# Altium schematic symbol library Ultrascale.SCHLIB: 117 symbols (part 2 of 3)
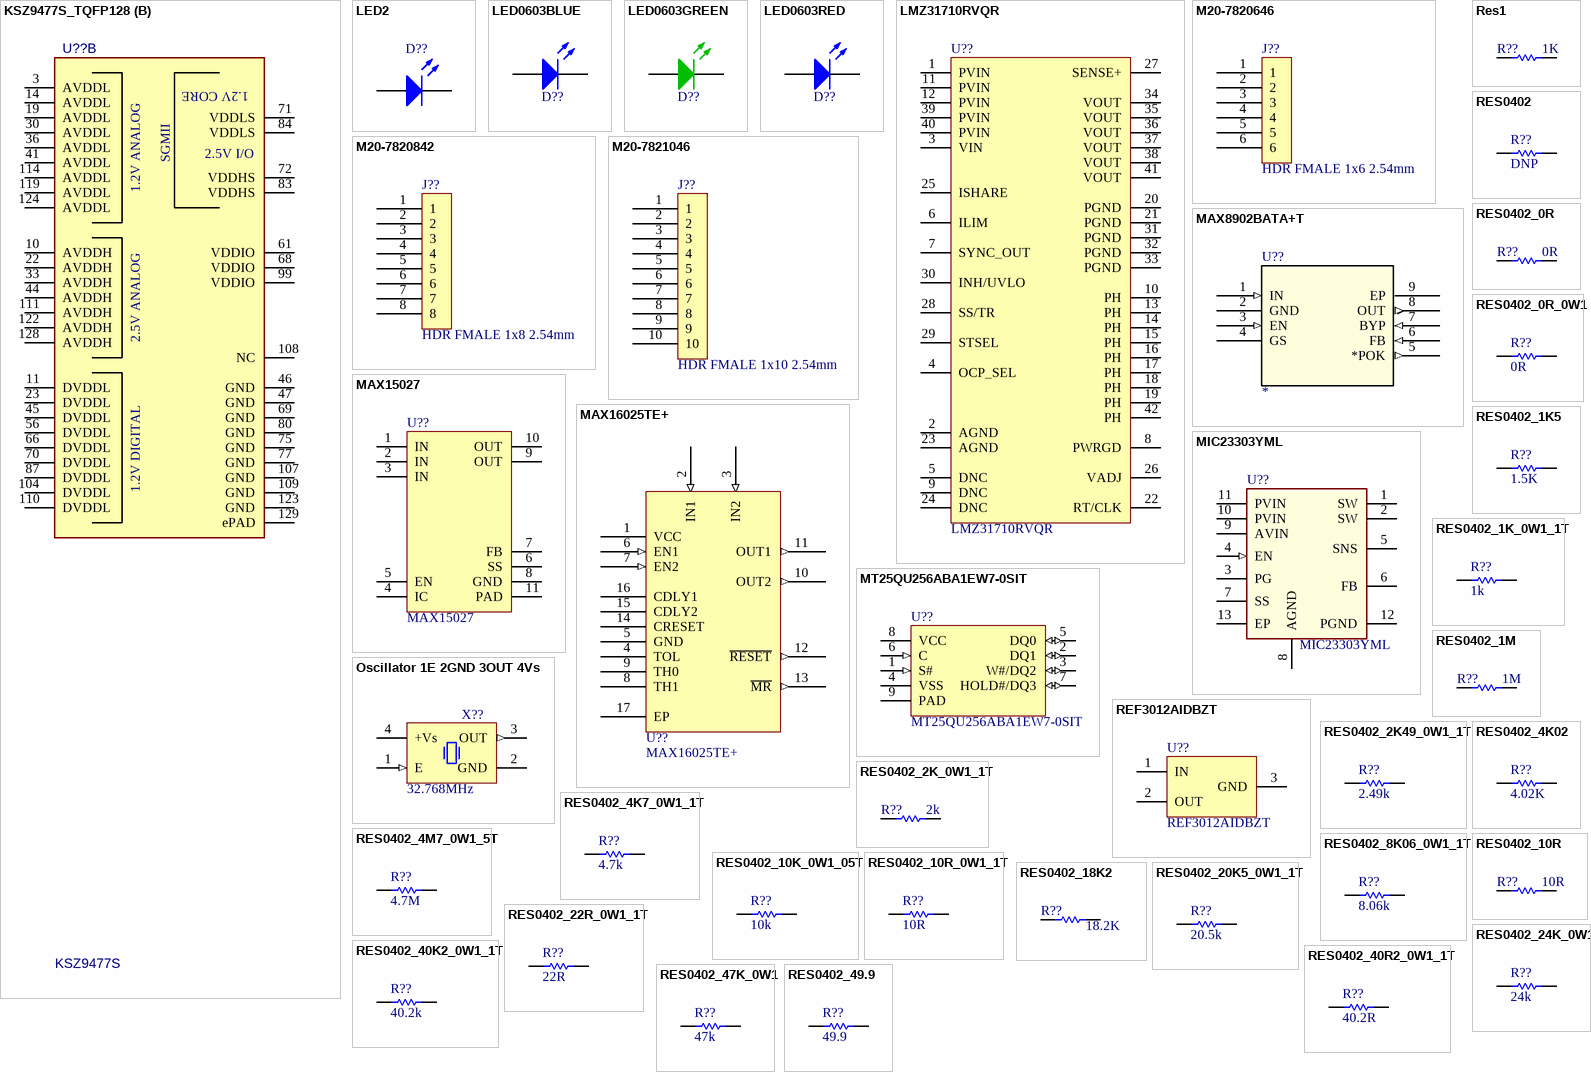
[diagram p7: symbols KSZ9477S_TQFP128 to RES0402_49.9]

## MAX16025TE+
designator U??
IC SUPERVISORY CIRC DL 16TQFN; Manufacturer: Maxim Integrated; ComponentLink1Description: Datasheet; ComponentLink1URL: C:\Users\Public\Documents\Altium\AD16\Library\PDF\MAX16025-MAX16030.pdf; Supplier 1: Digi-Key; Supplier Part Number 1: MAX16025TE+-ND; Operating Temperature: -40°C ~ 125°C (TA); Manufacturer Part Number: MAX16025TE+
footprint T1644+4_L (QFN, 16-Leads, Body 4x4mm, Pitch 0.65mm, Thermal Pad 2.3x2.3mm, IPC High Density)
pins: 1 VCC, 2 IN1 (in), 3 IN2 (in), 4 TOL, 5 GND, 6 EN1 (in), 7 EN2 (in), 8 TH1, 9 TH0, 10 OUT2 (out), 11 OUT1 (out), 12 ~{RESET} (out), 13 ~{MR} (out), 14 CRESET, 15 CDLY2, 16 CDLY1, 17 EP

## MIC23303YML
designator U??
4MHz PWM 3A Buck Regulator with HyperLight Load and Power Good; Part Checked: Carl Johnson; Manufacturer: Microchip Technology; Populated: Yes; Temperature Rating: -40 to +125 C; Description_: 4MHz PWM 3A Buck Regulator with HyperLight Load and Power Good; Document Link: http://nyusperforce.smsc.com//depot_np_hweng_boards/altium_libraries/datasheets/_Microchip/_Micrel/MIC23303.pdf; Owner: *; Part 3D Model Checked: *; Part Footprint Checked: *; Part Golden: *; Revision Date: 06/20/16; Package: DFN12-3x3; Supplier 1: DigiKey; Supplier 2: Mouser; Supplier Part Number 1: 1611-MIC23303YML-T5CT-ND; Supplier Part Number 2: 998-MIC23303YMLT5; Value: MIC23303YML; Manufacturer Part Number: MIC23303YML
footprint DFN-12_3x3 (Footprint not found)
pins: 1 SW, 2 SW, 3 PG (power), 4 EN (in), 5 SNS, 6 FB (hiz), 7 SS, 8 AGND (power), 9 AVIN (power), 10 PVIN (power), 11 PVIN (power), 12 PGND (power), 13 EP

## MT25QU256ABA1EW7-0SIT
designator U??
IC FLASH 256MBIT 108MHZ 8VPDFN; Manufacturer: Micron Technology Inc.; ComponentLink1Description: Datasheet; ComponentLink1URL: C:\Users\Public\Documents\Altium\AD16\Library\PDF\MT25Q_QLJS_U_256_ABA_0.pdf; Supplier 1: Digi-Key; Manufacturer Part Number: MT25QU256ABA1EW7-0SIT
footprint W-PDFN-8_6x5mm (SON, 8-Leads, Body 5.00x6.00mm, Pitch 1.27mm, Thermal Pad 3.00x3.00mm, IPC Medium Density)
pins: 1 S# (in), 2 DQ1 (io), 3 W#/DQ2 (io), 4 VSS, 5 DQ0 (io), 6 C (in), 7 HOLD#/DQ3 (io), 8 VCC, 9 PAD

## Oscillator 1E 2GND 3OUT 4Vs
designator X??, comment 32.768MHz
Oscillator 4 pins 1=E 2=GND 3=OUT 4=+Vs; Part Number: OSC_32.7688MHZ_RAKON_LF SPXO019203; Part Description: 3.3V ±50ppm Tri-State Surface Mount HCCMOS Clock Oscillator (CFPS-73 Serie); Manufacturer: EPSON; Manufacturer Part Number: SG-3030JF 32.7680KB0: ROHS; Table: Crystals & Oscillators; Frequency: 32.768kHz; Output: CMOS; Voltage - Supply: 1.5 V ~ 5.5 V; Current - Supply (Max): 2µA; Component Kind: Standard; Component Type: Standard; Footprint: OSCSC508P500X700X180-4N; PackageDescription: SMD Oscillator, side convave, 4 pins, 5.00x7.00mm; Value: 32.768MHz; Pin Count: 4; Mounted: Yes; Socket: No; SMD: Yes; ComponentHeight: 2mm; HelpURL: \\cern.ch\dfs\Applications\Altium\Datasheets\OSC_RAKON_CFPS.pdf; Author: CERN DEM JLC; CreateDate: 5.10.2009; LatestRevisionDate: 5.10.2009; Category: Crystals and Oscillators; Supplier Part Number: SG-3030JF 32.7680KB0: ROHS-ND; Supplier: Digi-Key; RoHS: RoHS Compliant; Packaging: Tape & Reel (TR); Type: XO (Standard); Function: -; Frequency Stability: -; Operating Temperature: -20°C ~ 70°C; Ratings: -; Mounting Type: Surface Mount; Size / Dimension: 0.280" L x 0.181" W (7.10mm x 4.60mm); Height: 0.059" (1.50mm); Package / Case: 4-SOJ; Current - Supply (Disable) (Max): -
footprint OSCSC508P500X700X180-4N
pins: 1 E (in), 2 GND (power), 3 OUT (out), 4 +Vs (power)

## REF3012AIDBZT
designator U??
IC VREF SERIES 1.25V SOT23-3; Manufacturer: Texas Instruments; Voltage - Input: 1.8 V ~ 5.5 V; ComponentLink1Description: Datasheet; ComponentLink1URL: C:\Users\Public\Documents\Altium\AD16\Library\PDF\ref3012.pdf; Supplier 1: Digi-Key; Supplier Part Number 1: REF3012AIDBZTCT-ND; Operating Temperature: -40°C ~ 125°C (TA); Voltage - Output (Min/Fixed): 1.25V; Manufacturer Part Number: REF3012AIDBZT
footprint TI-DBZ3_N (SOT23, 3-Leads, Body 2.92x1.3 mm, Pitch 0.95 mm, IPC Medium Density)
pins: 1 IN, 2 OUT, 3 GND

## Res1
designator R??  value 1K
Resistor; Published: 8-Jun-2000; LatestRevisionDate: 17-Jul-2002; LatestRevisionNote: Re-released for DXP Platform.; PackageReference: AXIAL-0.3; Publisher: Altium Limited; PackageDescription: Axial Device, Thru-Hole; 2 Leads; 0.3 in Pin Spacing
footprint AXIAL-0.3 (Axial Device, Thru-Hole; 2 Leads; 0.3 in Pin Spacing)
simulation model RESISTOR (Resistor)
signal-integrity model Res
pins: 1, 2

## RES0402
designator R??  value DNP  (hidden comment: RES0402)
RES SMD 0402 Footprint; Package: 0402; ComponentLink1Description: Datasheet; Tolerance: -
footprint RESC1005L_0402 (Chip Resistor, Body 1.1x0.5mm, IPC High Density)
pins: 1, 2

## RES0402_0R
designator R??  value 0R  (hidden comment: RES0402_0R)
RES SMD 0 OHM JUMPER 1/16W 0402; Manufacturer: Vishay Dale; Manufacturer Part Number: CRCW04020000Z0ED; Power: 0.063W, 1/16W; Package: 0402; ComponentLink1Description: Datasheet; Tolerance: -; Supplier 1: Digi-Key; Supplier Part Number 1: 541-0.0JCT-ND
footprint RESC1005L_0402 (Chip Resistor, Body 1.1x0.5mm, IPC High Density)
simulation model RESISTOR (Resistor)
signal-integrity model Res
pins: 1, 2

## RES0402_0R_0W1
designator R??  value 0R  (hidden comment: RES0402_0R_0W1)
RES SMD 0 OHM JUMPER 1/10W 0402; Manufacturer: Panasonic Electronic Components; Manufacturer Part Number: ERJ-2GE0R00X; Package: 0402; ComponentLink1Description: Datasheet; Power: 1/10W; Tolerance: -; Supplier 1: Digi-Key; Supplier Part Number 1: P0.0JCT-ND
footprint RESC1005L_0402 (Chip Resistor, Body 1.1x0.5mm, IPC High Density)
simulation model RESISTOR (Resistor)
signal-integrity model Res
pins: 1, 2

## RES0402_1K5
designator R??  value 1.5K
RES SMD 1.5K OHM 1% 1/16W 0402; Manufacturer Part Number: CRCW04021K50FKED; Manufacturer: Vishay Dale; Power: 1/10W; Package: 0402; ComponentLink1Description: Datasheet; Tolerance: 1%; Supplier 1: Digi-Key; Supplier Part Number 1: 311-1.5KJRCT-ND
footprint RESC1005L_0402 (Chip Resistor, Body 1.1x0.5mm, IPC High Density)
simulation model RESISTOR (Resistor)
signal-integrity model Res
pins: 1, 2

## RES0402_1K_0W1_1T
designator R??  value 1k  (hidden comment: RES0402_1K_0W1_1T)
RES SMD 1K OHM 1% 1/10W 0402; Manufacturer: Panasonic Electronic Components; Manufacturer Part Number: ERJ-2RKF1001X; Package: 0402; ComponentLink1Description: Datasheet; Power: 1/10W; Tolerance: 1%; Supplier 1: Digi-Key; Supplier Part Number 1: P1.00KLCT-ND
footprint RESC1005L_0402 (Chip Resistor, Body 1.1x0.5mm, IPC High Density)
simulation model RESISTOR (Resistor)
signal-integrity model Res
pins: 1, 2

## RES0402_1M
designator R??  value 1M
RES SMD 1M OHM 1% 1/16W 0402; Manufacturer: Vishay Dale; Manufacturer Part Number: CRCW04021M00FKED; Power: 0.063W, 1/16W; Package: 0402; ComponentLink1Description: Datasheet; Tolerance: 1%; Supplier 1: Digi-Key; Supplier Part Number 1: 311-1.00MLRCT-ND
footprint RESC1005L_0402 (Chip Resistor, Body 1.1x0.5mm, IPC High Density)
simulation model RESISTOR (Resistor)
signal-integrity model Res
pins: 1, 2

## RES0402_2K49_0W1_1T
designator R??  value 2.49k  (hidden comment: RES0402_2K49_0W1_1T)
RES SMD 2.49K OHM 1% 1/10W 0402; Manufacturer: Panasonic Electronic Components; Manufacturer Part Number: ERJ-2RKF2491X; Package: 0402; ComponentLink1Description: Datasheet; Power: 1/10W; Tolerance: 1%; Supplier 1: Digi-Key; Supplier Part Number 1: P2.49KLCT-ND
footprint RESC1005L_0402 (Chip Resistor, Body 1.1x0.5mm, IPC High Density)
simulation model RESISTOR (Resistor)
signal-integrity model Res
pins: 1, 2

## RES0402_2K_0W1_1T
designator R??  value 2k  (hidden comment: RES0402_2K_0W1_1T)
RES SMD 2K OHM 1% 1/16W 0402; Manufacturer: Vishay Dale; Manufacturer Part Number: CRCW04022K00FKED; Power: 1/10W; Package: 0402; ComponentLink1Description: Datasheet; Tolerance: 1%; Supplier 1: Digi-Key; Supplier Part Number 1: 541-2.00KLCT-ND
footprint RESC1005L_0402 (Chip Resistor, Body 1.1x0.5mm, IPC High Density)
simulation model RESISTOR (Resistor)
signal-integrity model Res
pins: 1, 2

## RES0402_4K02
designator R??  value 4.02K  (hidden comment: *)
RES SMD 4.02K OHM 1% 1/16W 0402; Manufacturer: Vishay; Manufacturer Part Number: CRCW04024K02FKED; Resistance_In_Ohms: 0.0; Power_(Watts): 0.063W, 1/16W; Tolerance: Jumper; Lead_Style: Surface Mount (SMD - SMT); Voltage_-_Working: 50V; Number_of_Terminations: 2; C: Copyright (C) 2015 Accelerated Designs. All rights reserved; DigiKeyPartNumber: 541-0.0JTR-ND; Quantity_Available: 3480000; Copyright: Copyright (C) 2015 Accelerated Designs. All rights reserved; DataSheet: http://www.vishay.com/docs/20035/dcrcwe3.pdf; Case: 0402 (1005 metric); Packaging: Tape &amp; Reel (TR); Composition: Thick Film; Temperature_Coefficient: -; Resistance_(Ohms): 0.0; Features: -; Package_/_Case: 0402 (1005 Metric); Size_/_Dimension: 0.039" L x 0.020" W (1.00mm x 0.50mm); Height: 0.016" (0.40mm); Supplier 1: Digi-Key; Supplier Part Number 1: 541-4.02KYCT-ND
footprint RC0402N
pins: 1, 2

## RES0402_4K7_0W1_1T
designator R??  value 4.7k  (hidden comment: RES0402_4K7_0W1_1T)
RES SMD 4.7K OHM 1% 1/10W 0402; Manufacturer: Panasonic Electronic Components; Manufacturer Part Number: ERJ-2RKF4701X; Package: 0402; ComponentLink1Description: Datasheet; Power: 1/10W; Tolerance: 1%; Supplier 1: Digi-Key; Supplier Part Number 1: P4.70KLCT-ND
footprint RESC1005L_0402 (Chip Resistor, Body 1.1x0.5mm, IPC High Density)
simulation model RESISTOR (Resistor)
signal-integrity model Res
pins: 1, 2

## RES0402_4M7_0W1_5T
designator R??  value 4.7M  (hidden comment: RES0402_4M7_0W1_5T)
RES SMD 4.7M OHM 5% 1/16W 0402; Manufacturer: Vishay Dale; Manufacturer Part Number: CRCW04024M70JNED; Power: 1/10W; Package: 0402; ComponentLink1Description: Datasheet; Tolerance: 5%; Supplier 1: Digi-Key; Supplier Part Number 1: 541-4.7MJCT-ND
footprint RESC1005L_0402 (Chip Resistor, Body 1.1x0.5mm, IPC High Density)
simulation model RESISTOR (Resistor)
signal-integrity model Res
pins: 1, 2

## RES0402_8K06_0W1_1T
designator R??  value 8.06k  (hidden comment: RES0402_8K06_0W1_1T)
RES SMD 8.06K OHM 1% 1/10W 0402; Manufacturer: Panasonic Electronic Components; Manufacturer Part Number: ERJ-2RKF8061X; Package: 0402; ComponentLink1Description: Datasheet; Power: 1/10W; Tolerance: 1%; Supplier 1: Digi-Key; Supplier Part Number 1: P8.06KLCT-ND
footprint RESC1005L_0402 (Chip Resistor, Body 1.1x0.5mm, IPC High Density)
simulation model RESISTOR (Resistor)
signal-integrity model Res
pins: 1, 2

## RES0402_10K_0W1_05T
designator R??  value 10k  (hidden comment: RES0402_10K_0W1_05T)
RES SMD 10K OHM 0.5% 1/16W 0402; Manufacturer: Panasonic Electronic Components; Manufacturer Part Number: ERJ-2RHD1002X; Package: 0402; ComponentLink1Description: Datasheet; Power: 1/16W; Tolerance: 0.5%; Supplier 1: Digi-Key; Supplier Part Number 1: P15984CT-ND
footprint RESC1005L_0402 (Chip Resistor, Body 1.1x0.5mm, IPC High Density)
simulation model RESISTOR (Resistor)
signal-integrity model Res
pins: 1, 2

## RES0402_10R
designator R??  value 10R  (hidden comment: RES0402_10R)
RES SMD 10 OHM 1% 1/16W 0402; Manufacturer: Vishay Dale; Manufacturer Part Number: CRCW040210R0FKED; Power: 0.063W, 1/16W; Package: 0402; ComponentLink1Description: Datasheet; Tolerance: -; Supplier 1: Digi-Key; Supplier Part Number 1: 541-10.0YCT-ND
footprint RESC1005L_0402 (Chip Resistor, Body 1.1x0.5mm, IPC High Density)
simulation model RESISTOR (Resistor)
signal-integrity model Res
pins: 1, 2

## RES0402_10R_0W1_1T
designator R??  value 10R  (hidden comment: RES0402_10R_0W1_1T)
RES SMD 10 OHM 1% 1/10W 0402; Manufacturer: Panasonic Electronic Components; Manufacturer Part Number: ERJ-2RKF10R0X; Package: 0402; ComponentLink1Description: Datasheet; Power: 1/10W; Tolerance: 1%; Supplier 1: Digi-Key; Supplier Part Number 1: P10.0LCT-ND
footprint RESC1005L_0402 (Chip Resistor, Body 1.1x0.5mm, IPC High Density)
simulation model RESISTOR (Resistor)
signal-integrity model Res
pins: 1, 2

## RES0402_18K2
designator R??  value 18.2K  (hidden comment: *)
RES SMD 18.2K OHM 1% 1/16W 0402; Manufacturer Part Number: CRCW040218K2FKED; Vendor: Vishay; Supersection: Passives; Section: Resistors; C: Copyright (C) 2015 Accelerated Designs. All rights reserved; Family: Surface Mount, Fixed; Copyright: Copyright (C) 2015 Accelerated Designs. All rights reserved; RS_Part_Number: 6784684; Supplier 1: Digi-Key; Manufacturer: Vishay
footprint RES_CRCW_0402
pins: 1, 2

## RES0402_20K5_0W1_1T
designator R??  value 20.5k  (hidden comment: RES0402_20K5_0W1_1T)
RES SMD 20.5K OHM 1% 1/10W 0402; Manufacturer: Panasonic Electronic Components; Manufacturer Part Number: ERJ-2RKF2052X; Package: 0402; ComponentLink1Description: Datasheet; Power: 1/10W; Tolerance: 1%; Supplier 1: Digi-Key; Supplier Part Number 1: P20.5KLCT-ND
footprint RESC1005L_0402 (Chip Resistor, Body 1.1x0.5mm, IPC High Density)
simulation model RESISTOR (Resistor)
signal-integrity model Res
pins: 1, 2

## RES0402_22R_0W1_1T
designator R??  value 22R  (hidden comment: RES0402_22R_0W1_1T)
RES SMD 22 OHM 1% 1/10W 0402; Manufacturer: Panasonic Electronic Components; Manufacturer Part Number: ERJ-2RKF22R0X; Package: 0402; ComponentLink1Description: Datasheet; Power: 1/10W; Tolerance: 1%; Supplier 1: Digi-Key; Supplier Part Number 1: P22.0LCT-ND
footprint RESC1005L_0402 (Chip Resistor, Body 1.1x0.5mm, IPC High Density)
simulation model RESISTOR (Resistor)
signal-integrity model Res
pins: 1, 2

## RES0402_24K_0W1
designator R??  value 24k  (hidden comment: RES0402_24K_0W1)
RES SMD 24K OHM 1% 1/10W 0402; Manufacturer: Panasonic Electronic Components; Manufacturer Part Number: ERJ-2RKF2402X; Package: 0402; ComponentLink1Description: Datasheet; Power: 1/10W; Tolerance: 1%; Supplier 1: Digi-Key; Supplier Part Number 1: P24.0KLCT-ND
footprint RESC1005L_0402 (Chip Resistor, Body 1.1x0.5mm, IPC High Density)
simulation model RESISTOR (Resistor)
signal-integrity model Res
pins: 1, 2

## RES0402_40K2_0W1_1T
designator R??  value 40.2k  (hidden comment: RES0402_40K2_0W1_1T)
RES SMD 40.2K OHM 1% 1/10W 0402; Manufacturer: Panasonic Electronic Components; Manufacturer Part Number: ERJ-2RKF4022X; Package: 0402; ComponentLink1Description: Datasheet; Power: 1/10W; Tolerance: 1%; Supplier 1: Digi-Key; Supplier Part Number 1: P40.2KLCT-ND
footprint RESC1005L_0402 (Chip Resistor, Body 1.1x0.5mm, IPC High Density)
simulation model RESISTOR (Resistor)
signal-integrity model Res
pins: 1, 2

## RES0402_40R2_0W1_1T
designator R??  value 40.2R  (hidden comment: RES0402_40R2_0W1_1T)
RES SMD 40.2 OHM 1% 1/10W 0402; Manufacturer: Panasonic Electronic Components; Manufacturer Part Number: ERJ-2RKF40R2X; Package: 0402; ComponentLink1Description: Datasheet; Power: 1/10W; Tolerance: 1%; Supplier 1: Digi-Key; Supplier Part Number 1: P40.2LCT-ND
footprint RESC1005L_0402 (Chip Resistor, Body 1.1x0.5mm, IPC High Density)
simulation model RESISTOR (Resistor)
signal-integrity model Res
pins: 1, 2

## RES0402_47K_0W1
designator R??  value 47k  (hidden comment: RES0402_47K_0W1)
RES SMD 47K OHM 1% 1/10W 0402; Manufacturer: Panasonic Electronic Components; Manufacturer Part Number: ERJ-2RKF4702X; Package: 0402; ComponentLink1Description: Datasheet; Power: 1/10W; Tolerance: 1%; Supplier 1: Digi-Key; Supplier Part Number 1: P47.0KLCT-ND
footprint RESC1005L_0402 (Chip Resistor, Body 1.1x0.5mm, IPC High Density)
simulation model RESISTOR (Resistor)
signal-integrity model Res
pins: 1, 2

## RES0402_49.9
designator R??  value 49.9
RES SMD 49.9 OHM 1% 1/16W 0402; Manufacturer: Vishay Dale; Manufacturer Part Number: CRCW040249R9FKED; Power: 0.063W, 1/16W; Package: 0402; ComponentLink1Description: Datasheet; Tolerance: 1%; Supplier 1: Digi-Key; Supplier Part Number 1: 311-49.9LRCT-ND
footprint RESC1005L_0402 (Chip Resistor, Body 1.1x0.5mm, IPC High Density)
simulation model RESISTOR (Resistor)
signal-integrity model Res
pins: 1, 2

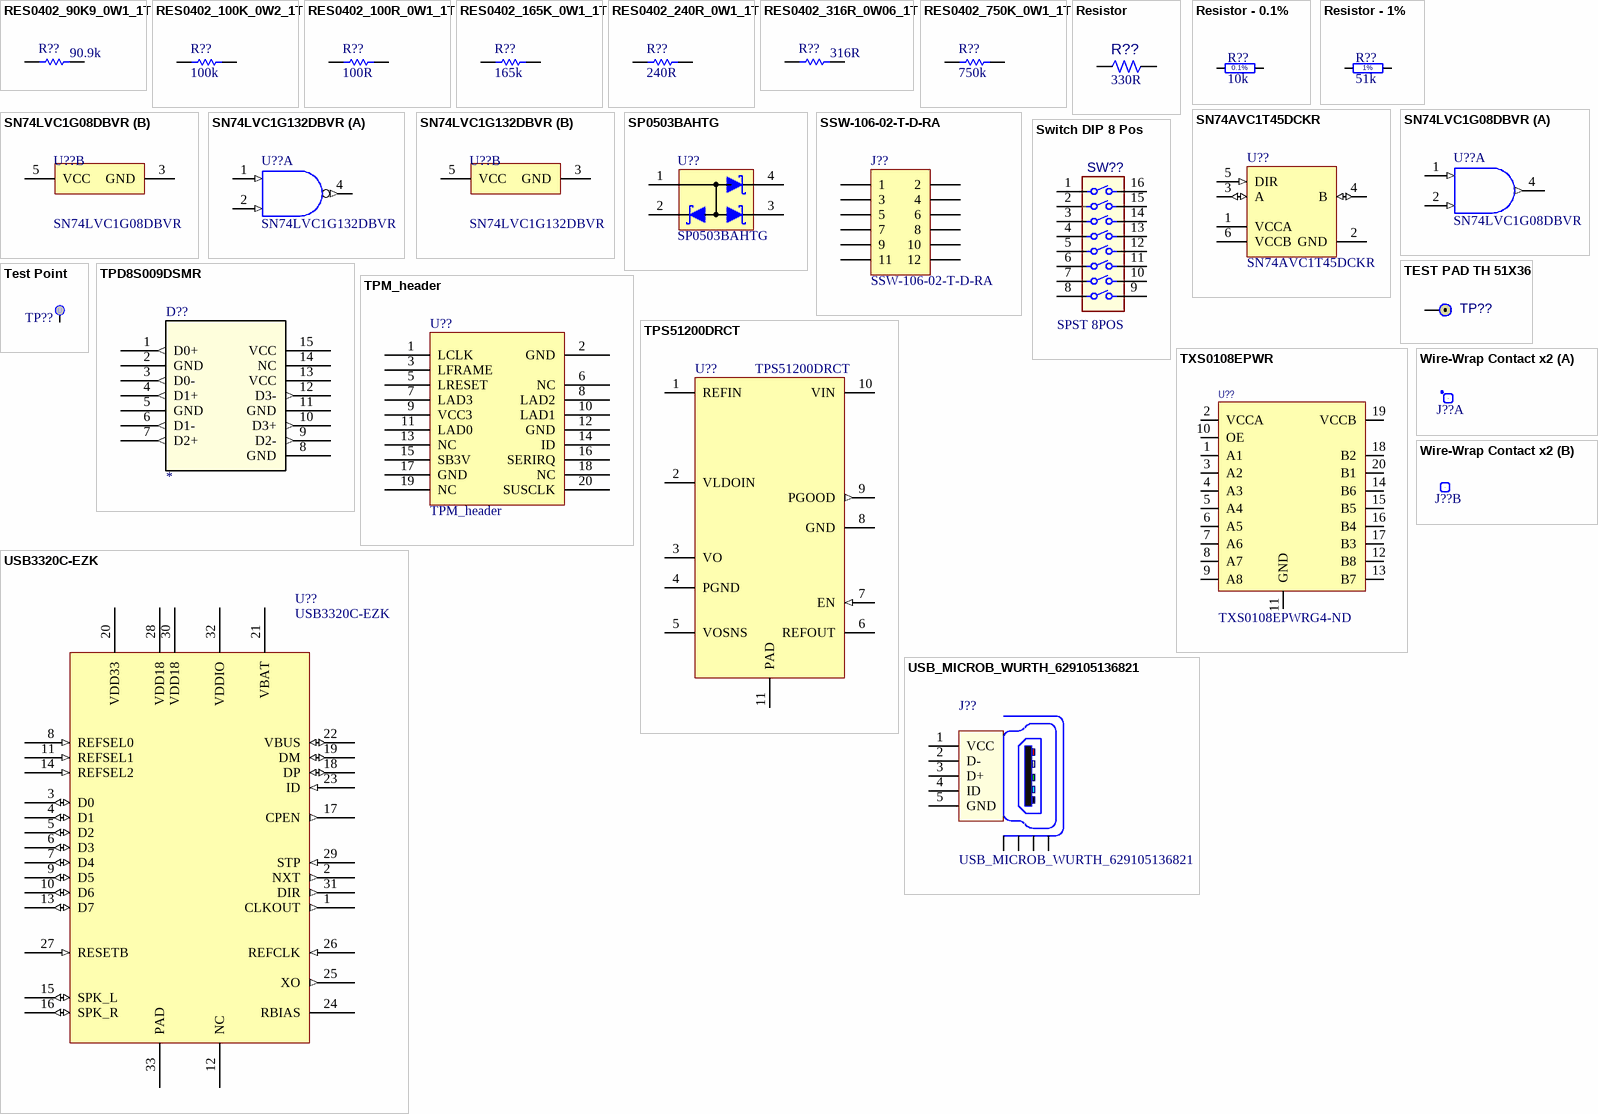
[diagram p3: symbols RES0402_90K9_0W1_1T to Wire-Wrap Contact x2]

## RES0402_90K9_0W1_1T
designator R??  value 90.9k  (hidden comment: RES0402_90K9_0W1_1T)
RES SMD 90.9K OHM 1% 1/10W 0402; Manufacturer: Panasonic Electronic Components; Manufacturer Part Number: ERJ-2RKF9092X; Package: 0402; ComponentLink1Description: Datasheet; Power: 1/10W; Tolerance: 1%; Supplier 1: Digi-Key; Supplier Part Number 1: P90.9KLCT-ND
footprint RESC1005L_0402 (Chip Resistor, Body 1.1x0.5mm, IPC High Density)
simulation model RESISTOR (Resistor)
signal-integrity model Res
pins: 1, 2

## RES0402_100K_0W2_1T
designator R??  value 100k  (hidden comment: RES0402_100K_0W2_1T)
RES SMD 100K OHM 1% 1/5W 0402; Manufacturer: Vishay Dale; Manufacturer Part Number: RCS0402100KFKED; Package: 0402; ComponentLink1Description: Datasheet; Power: 1/5W; Tolerance: 1%; Supplier 1: Digi-Key; Supplier Part Number 1: 541-2899-1-ND
footprint RESC1005L_0402 (Chip Resistor, Body 1.1x0.5mm, IPC High Density)
simulation model RESISTOR (Resistor)
signal-integrity model Res
pins: 1, 2

## RES0402_100R_0W1_1T
designator R??  value 100R  (hidden comment: RES0402_100R_0W1_1T)
RES SMD 100 OHM 1% 1/10W 0402; Manufacturer: Panasonic Electronic Components; Manufacturer Part Number: ERJ-2RKF1000X; Package: 0402; ComponentLink1Description: Datasheet; Power: 1/10W; Tolerance: 1%; Supplier 1: Digi-Key; Supplier Part Number 1: P100LCT-ND
footprint RESC1005L_0402 (Chip Resistor, Body 1.1x0.5mm, IPC High Density)
simulation model RESISTOR (Resistor)
signal-integrity model Res
pins: 1, 2

## RES0402_165K_0W1_1T
designator R??  value 165k  (hidden comment: RES0402_165K_0W1_1T)
RES SMD 165K OHM 1% 1/10W 0402; Manufacturer: Panasonic Electronic Components; Manufacturer Part Number: ERJ-2RKF1653X; Package: 0402; ComponentLink1Description: Datasheet; Power: 1/10W; Tolerance: ±1%; Supplier 1: Digikey; Supplier Part Number 1: P165KLCT-ND
footprint RESC1005L_0402 (Chip Resistor, Body 1.1x0.5mm, IPC High Density)
pins: 1, 2

## RES0402_240R_0W1_1T
designator R??  value 240R  (hidden comment: RES0402_240R_0W1_1T)
RES SMD 240 OHM 1% 1/10W 0402; Manufacturer: Panasonic Electronic Components; Manufacturer Part Number: ERJ-2RKF2400X; Package: 0402; ComponentLink1Description: Datasheet; Power: 1/10W; Tolerance: 1%; Supplier 1: Digi-Key; Supplier Part Number 1: P240LCT-ND
footprint RESC1005L_0402 (Chip Resistor, Body 1.1x0.5mm, IPC High Density)
simulation model RESISTOR (Resistor)
signal-integrity model Res
pins: 1, 2

## RES0402_316R_0W06_1T
designator R??  value 316R  (hidden comment: RES0402_316R_0W06_1T)
RES SMD 316 OHM 1% 1/16W 0402; Manufacturer: Vishay Dale; Manufacturer Part Number: CRCW0402316RFKED; Package: 0402; ComponentLink1Description: Datasheet; Power: 1/16W; Tolerance: 1%; Supplier 1: Digi-Key; Supplier Part Number 1: 541-316LCT-ND
footprint RESC1005L_0402 (Chip Resistor, Body 1.1x0.5mm, IPC High Density)
simulation model RESISTOR (Resistor)
signal-integrity model Res
pins: 1, 2

## RES0402_750K_0W1_1T
designator R??  value 750k  (hidden comment: RES0402_750K_0W1_1T)
RES SMD 750K OHM 1% 1/10W 0402; Manufacturer: Panasonic Electronic Components; Manufacturer Part Number: ERJ-2RKF7503X; Package: 0402; ComponentLink1Description: Datasheet; Power: 1/10W; Tolerance: 1%; Supplier 1: Digi-Key; Supplier Part Number 1: P750KLCT-ND
footprint RESC1005L_0402 (Chip Resistor, Body 1.1x0.5mm, IPC High Density)
simulation model RESISTOR (Resistor)
signal-integrity model Res
pins: 1, 2

## Resistor
designator R??  value 330R  (hidden comment: Resistor)
Manufacturer 1: Panasonic; Manufacturer Part Number 1: ERJ-3GEYJ331V; MCHP-ID: RSMT0166; Tolerance: 5%; Description_: RES TKF 330R 5% 1/10W SMD 0603; Dev Tools Status: Production; Voltage: 75V; Temperature Coeffcient: 200ppm/C; Power: 1/10W; Populated: Yes; Package: 0603; Revision: 1; Status: MCL Design; ComponentLink1URL: https://chn-vm-apps.microchip.com/mchprepo/parts/Datasheets/AOA0000CE1.pdf; ComponentLink1Description: Datasheet; Operating Temperature: -55C to +155C; Category: Resistor; Type: RES SMD; Composition: TKF; Manufacturer 2: KOA Speer; Manufacturer Part Number 2: RK73B1JTTD331J; Manufacturer 3: Stackpole Electronics Inc; Manufacturer Part Number 3: RMCF 1/16 330 5% R; Supplier 1: Digi-Key; Supplier Part Number 1: P330GTR-ND; Supplier 2: KOA Speer; Supplier Part Number 2: RK73B1JTTD331J; Supplier 3: Stackpole Electronics Inc; Supplier Part Number 3: RMCF 1/16 330 5% R; Quantity Override: 1
footprint RES_C_0603 (Chip Resistor, 2-Leads, Body 1.6x0.8mm, IPC Medium Density)
pins: 1, 2

## Resistor - 0.1%
designator R??, comment 10k
Resistor - 0.1%; Part Number: R0603_10K_0.1%_0.063W_10PPM; Part Description: Thin Film Chip Resistor; Manufacturer: Panasonic Electronic Components; Manufacturer Part Number: ERJ-3GEYJ103V; Manufacturer1 Part Number: RN73C1J10KBTDF; Power: 0.063W; TC: ±10ppm; Tolerance: ±5%; Table: Resistors SMD; Temperature Coefficient: ±200ppm/°C; Power (Watts): 0.1W, 1/10W; Component Kind: Standard; Component Type: Standard; Footprint: RESC1608X55N; Pin Count: 2; Value: 10k; Status: Not recommended; Case: 0603; Mounted: Yes; Socket: No; SMD: Yes; Manufacturer1 Example: TYCO HOLSWORTHY; Manufacturer1 ComponentHeight: 0.5mm; HelpURL: \\cern.ch\dfs\Applications\Altium\Datasheets\R0603_Tyco_RN73.pdf; Author: CERN DEM JLC; CreateDate: 3.12.2007; LatestRevisionDate: 13.03.2008; Supplier: Digi-Key; Supplier Part Number: P10KGDKR-ND; Category: Resistors; Height: 0.022" (0.55mm); Operating Temperature: -55°C ~ 155°C; Number of Terminations: 2; Composition: Thick Film; Features: Automotive AEC-Q200; RoHS: RoHS Compliant; Supplier Device Package: 0603; Size / Dimension: 0.063" L x 0.031" W (1.60mm x 0.80mm); Packaging: Digi-Reel®; Resistance (Ohms): 10k; Package / Case: 0603 (1608 Metric)
footprint RESC1608X55N
pins: 1, 2
text: 0.1%

## Resistor - 1%
designator R??, comment 51k
Resistor - 1%; Part Number: R0603_51K_1%_0.1W_100PPM; Part Description: General Purpose Thick Film Chip Resistor; Manufacturer: Yageo; Manufacturer Part Number: RC0603JR-0751KL; Manufacturer1 Part Number: NRC06F5102TRF; Power: 0.1W; TC: ±100ppm/°C; Tolerance: ±5%; Table: Resistors SMD; Power (Watts): 0.1W, 1/10W; Component Kind: Standard; Component Type: Standard; Footprint: RESC1608X55N; Pin Count: 2; Value: 51k; Status: Preferred; Case: 0603; Mounted: Yes; Socket: No; SMD: Yes; Manufacturer1 Example: NIC COMPONENT; Manufacturer1 ComponentHeight: 0.55mm; HelpURL: \\cern.ch\dfs\Applications\Altium\Datasheets\R0603_NIC_NRC.pdf; Author: CERN DEM JLC; CreateDate: 3.12.2007; LatestRevisionDate: 13.03.2008; Height: 0.022" (0.55mm); Features: Moisture Resistant; RoHS: RoHS Compliant; Number of Terminations: 2; Category: Resistors; Composition: Thick Film; Resistance (Ohms): 51k; Size / Dimension: 0.063" L x 0.031" W (1.60mm x 0.80mm); Supplier Part Number: 311-51KGRCT-ND; Supplier Device Package: 0603; Package / Case: 0603 (1608 Metric); Supplier: Digi-Key; Temperature Coefficient: ±100ppm/°C; Packaging: Cut Tape (CT); Operating Temperature: -55°C ~ 155°C
footprint RESC1608X55N
pins: 1, 2
text: 1%

## SN74AVC1T45DCKR
designator U??
Single-Bit Dual-Supply Bus Transceiver with Configurable Voltage Translation and 3-State Outputs, DCK0006A, LARGE T&R; Manufacturer: Texas Instruments; VCC(Min)(V): 1.2; VCC(Max)(V): 3.6; Output Type: CMOS; Logic: True; ICC @ Nom Voltage(Max)(mA): 0.0009; Bits(#): 1; F @ Nom Voltage(Max)(Mhz): 100; Rating: Catalog; Technology Family: AVC; Voltage(Nom)(V): 1.2,1.5,1.8,2.5,3.3; Schmitt Trigger: No; Output Drive (IOL/IOH)(Max)(mA): 12/-12; Sub-Family: Dual Supply Translator; 3-State Output: Yes; tpd @ Nom Voltage(Max)(ns): 2.9,5.6,5.2,4.2,3.8; DatasheetVersion: SCES530H; PackageReference: DCK0006A; Supplier 2: Mouser; Supplier Part Number 2: 595-SN74AVC1T45DCKR; Supplier 1: Digi-Key; Supplier Part Number 1: 296-17992-2-ND; Supplier 3: Digi-Key; Supplier Part Number 3: 296-17992-1-ND; Supplier 4: Digi-Key; Supplier Part Number 4: 296-17992-6-ND; Generic Part Number: SN74AVC1T45; Input Type: CMOS; Operating Temperature Range(C): -40 to 85; ComponentLink1Description: Manufacturer URL; ComponentLink1URL: C:\Users\Public\Documents\Altium\AD16\Library\PDF\sn74avc1t45.pdf; Manufacturer Part Number: SN74AVC1T45DCKR
footprint DCK0006A_N (SOT23, 6-Leads, Body 2.15x1.4mm, Pitch 0.65mm, IPC Medium Density)
pins: 1 VCCA (power), 2 GND (power), 3 A (io), 4 B (io), 5 DIR (in), 6 VCCB (power)

## SN74LVC1G08DBVR
designator U??
Single 2-Input Positive-AND Gate, DBV0005A, LARGE T&R; Manufacturer: Texas Instruments; VCC(Min)(V): 1.65; VCC(Max)(V): 5.5; Output Type: CMOS; ICC @ Nom Voltage(Max)(mA): 0.01; Input Type: CMOS/TTL; Bits(#): 1; F @ Nom Voltage(Max)(Mhz): 150; Rating: Catalog; Technology Family: LVC; Voltage(Nom)(V): 1.8,2.5,3.3,5; Schmitt Trigger: No; Output Drive (IOL/IOH)(Max)(mA): 32/-32; tpd @ Nom Voltage(Max)(ns): 4.5,6,4,5; Logic: True; Gate Type: AND; DatasheetVersion: SCES217Y; PackageReference: DBV0005A; Supplier 2: Mouser; Supplier Part Number 2: 595-SN74LVC1G08DBVR; Supplier 1: Digi-Key; Supplier Part Number 1: 296-11601-2-ND; Supplier 3: Digi-Key; Supplier Part Number 3: 296-11601-1-ND; Supplier 4: Digi-Key; Supplier Part Number 4: 296-11601-6-ND; Generic Part Number: SN74LVC1G08; Operating Temperature: -40°C ~ 125°C; Sub-Family: AND Gate; 3-State Output: No; ComponentLink1Description: Manufacturer URL; ComponentLink1URL: C:\Users\Public\Documents\Altium\AD16\Library\PDF\sn74lvc1g08.pdf; Manufacturer Part Number: SN74LVC1G08DBVR
footprint DBV0005A_N (SOT23, 5-Leads, Body 3.05x1.75mm, Pitch 0.95mm, IPC Medium Density)
part A pins: 1 A (in) "Input A", 2 B (in) "Input B", 4 Y (out) "Output Y"
part B pins: 3 GND (power) "Ground Pin", 5 VCC (power) "Power Pin"

## SN74LVC1G132DBVR
designator U??
Single 2-Input NAND Gate with Schmitt-Trigger Input, DBV0005A, LARGE T&R; Manufacturer: Texas Instruments; VCC(Min)(V): 1.65; VCC(Max)(V): 5.5; Output Type: CMOS; ICC @ Nom Voltage(Max)(mA): 0.01; Input Type: CMOS/TTL; Bits(#): 1; F @ Nom Voltage(Max)(Mhz): 150; Rating: Catalog; Technology Family: LVC; Voltage(Nom)(V): 1.8,2.5,3.3,5; Schmitt Trigger: Yes; Output Drive (IOL/IOH)(Max)(mA): 32/-32; tpd @ Nom Voltage(Max)(ns): 16,7.5,6,5; Logic: True; 3-State Output: No; DatasheetVersion: SCES546C; PackageReference: DBV0005A; Supplier 2: Mouser; Supplier Part Number 2: 595-SN74LVC1G132DBVR; Supplier 1: Digi-Key; Supplier Part Number 1: 296-17888-2-ND; Supplier 3: Digi-Key; Supplier Part Number 3: 296-17888-1-ND; Supplier 4: Digi-Key; Supplier Part Number 4: 296-17888-6-ND; Generic Part Number: SN74LVC1G132; Operating Temperature: -40 to 125; Gate Type: NAND; Sub-Family: NAND Gate; ComponentLink1Description: Datasheet; ComponentLink1URL: C:\Users\Public\Documents\Altium\AD16\Library\PDF\sn74lvc1g132.pdf; Manufacturer Part Number: SN74LVC1G132DBVR
footprint DBV0005A_N (SOT23, 5-Leads, Body 3.05x1.75mm, Pitch 0.95mm, IPC Medium Density)
part A pins: 1 A (in) "Input A", 2 B (in) "Input B", 4 Y (out) "Output Y"
part B pins: 3 GND (power) "Ground Pin", 5 VCC (power) "Power Pin"

## SP0503BAHTG
designator U??
IC TXRX USB 2.0 FLEXPWR 32QFN; Manufacturer: Littelfuse Inc.; ComponentLink1Description: Datasheet; ComponentLink1URL: C:\Users\Public\Documents\Altium\AD16\Library\PDF\SP05xxBA.pdf; Supplier 1: Digi-Key; Supplier Part Number 1: F2715CT-ND; Operating Temperature: -40°C ~ 85°C (TA); Manufacturer Part Number: SP0503BAHTG
footprint SP0503BAHT_SOT143 (LITTELFUSE TVS DIODE 5.5VWM 8.5VC SOT143)
pins: 1, 2, 3, 4

## SSW-106-02-T-D-RA
designator J??
CONN RCPT .100" 12PS DL R/A TIN; Manufacturer: Samtec Inc.; ComponentLink1Description: Datasheet; ComponentLink1URL: C:\Users\Public\Documents\Altium\AD16\Library\PDF\ssw-1xx-xx-xxx-x-xx-xxx-xx-mkt.pdf; Supplier 1: Digi-Key; Supplier Part Number 1: SAM10026-ND; Operating Temperature: -55°C ~ 105°C; Insulation Height: 0.195" (4.95mm); Manufacturer Part Number: SSW-106-02-T-D-RA
footprint HDR2X6H (Connector; Header; 6x2 Position; Right Angle)
pins: 1, 2, 3, 4, 5, 6, 7, 8, 9, 10, 11, 12

## Switch DIP 8 Pos
designator SW??, comment SPST 8POS
Switch DIP SPST 8POS SMD; Manufacturer: TE Connectivity Alcoswitch Switches; Manufacturer Part Number: 1-1825058-9; Description_: SWITCH SLIDE SPST 24V 100mA 1825058-9EXT ACT 8POS 24V; Voltage Rating: 24VDC; Populated: Yes; Supplier 1: Mouser; Supplier 2: Digi-Key; RoHS: Yes; ComponentLink1URL: http://www.te.com/commerce/DocumentDelivery/DDEController?Action=srchrtrv&DocNm=1825058&DocType=Customer+Drawing&DocLang=English; ComponentLink1Description: http://www.te.com/commerce/DocumentDelivery/DDEController?Action=srchrtrv&DocNm=1825058&DocType=Customer+Drawing&DocLang=English; Supplier Part Number 1: 506-ADE08S04; Supplier Part Number 2: 1-1825058-9-ND; Value: SPST 8POS
footprint SW_SM_8POS24V_TE (Switch DIP8 SMD Gull Wing)
pins: 1, 2, 3, 4, 5, 6, 7, 8, 9, 10, 11, 12, 13, 14, 15, 16

## TEST PAD TH 51X36
designator TP??, comment Jumper  (value not drawn)  (no BOM)
Test Pad TH 51X36; Manufacturer Part Number: none; Description_: TEST Pad, PIN sized, 51pad, 36 FHS; Populated: Yes; Manufacturer: none; Category: Non BOM Item; Type: Male; Mounting Type: Through Hole; Supplier 1: none; Supplier Part Number 1: none
footprint TP_PAD51D36 (TEST POINT, PLATED THRU HOLE PAD51_DRILL36)
pins: 1 P1

## Test Point
designator TP??, comment TP  (value not drawn)  (no BOM)
Test Point
footprint TP
pins: 1

## TPD8S009DSMR
designator D??
TVS DIODE 5.5VWM 15SON; Manufacturer Part Number: TPD8S009DSMR; Vendor: Texas Instruments; Section: Power Management; C: Copyright (C) 2015 Accelerated Designs. All rights reserved; Family: Power Misc; Copyright: Copyright (C) 2015 Accelerated Designs. All rights reserved; RS_Part_Number: 7099082; Value: Value; Type: Type; RefDes: RefDes; Supplier 1: Digi-Key; Supplier Part Number 1: 296-23829-1-ND; Manufacturer: Texas Instruments
footprint DSM15 (TVS DIODE 5.5VWM 15SON)
pins: 1 D0+ (out), 2 GND (power), 3 D0- (out), 4 D1+ (out), 5 GND (power), 6 D1- (out), 7 D2+ (out), 8 GND (power), 9 D2- (out), 10 D3+ (out), 11 GND (power), 12 D3- (out), 13 VCC (power), 14 NC, 15 VCC (power)

## TPM_header
designator U??
GC-TPM-rev-20; Manufacturer: PIN HEADER 20POS 2.5; Controller: Infineon SLB9665TT2.0 FW5.51; Interface: TPM header key, LPC bus PH/2*10K4/BUL/2.54; Motherboard: GIGABYTE
footprint PIN HEADER 20POS (TPM HEADER for TPM Module GC-TPM2.0)
pins: 1 LCLK (power), 2 GND (power), 3 LFRAME (power), 5 LRESET (power), 6 NC (power), 7 LAD3 (power), 8 LAD2 (power), 9 VCC3 (power), 10 LAD1 (power), 11 LAD0 (power), 12 GND (power), 13 NC (power), 14 ID (power), 15 SB3V (power), 16 SERIRQ (power), 17 GND (power), 18 NC (power), 19 NC (power), 20 SUSCLK (power)

## TPS51200DRCT
designator U??
IC SINK/SOURCE DDR REG 10-SON; Manufacturer: Texas Instruments; ComponentLink1Description: Datasheet; ComponentLink1URL: C:\Users\Public\Documents\Altium\AD16\Library\PDF\tps51200.pdf; Supplier 1: Digi-Key; Supplier Part Number 1: 296-23830-1-ND; Operating Temperature: -40°C ~ 85°C; Manufacturer Part Number: TPS51200DRCT
footprint DRC_S-PVSON-N10 (TI 3mmx3mm DRC S-PVSON-N10 Package)
pins: 1 REFIN, 2 VLDOIN, 3 VO, 4 PGND, 5 VOSNS, 6 REFOUT, 7 EN (in), 8 GND, 9 PGOOD (out), 10 VIN, 11 PAD

## TXS0108EPWR
designator U??  Supplier Part Number: TXS0108EPWRG4-ND  (hidden comment: TXS0108EPWR)
IC 8BIT NON-INV TRANSLTR 20TSSOP; Manufacturer Part Number: TXS0108EPWRG4; Manufacturer: Texas Instruments; Voltage - VCCA: 1.2 V ~ 3.6 V; Channels per Circuit: 8; Output Type: Open Drain, Push-Pull; Channel Type: Bidirectional; Data Rate: 60Mbps; Voltage - VCCB: 1.65 V ~ 5.5 V; Number of Circuits: 1; Translator Type: Voltage Level; Features: Auto-Direction Sensing; Mounting Type: Surface Mount; Output Signal: -; RoHS: RoHS Compliant; Input Signal: -; Packaging: Tape & Reel (TR); Operating Temperature: -40°C ~ 85°C (TA); Supplier: Digi-Key; Category: Integrated Circuits (ICs); Package / Case: 20-TSSOP (0.173", 4.40mm Width); Supplier Device Package: 20-TSSOP
footprint SOP65P640X120-20N (SOP, 20-Leads, Body 6.5x4.4mm, Pitch 0.65mm, IPC Medium Density)
pins: 1 A1, 2 VCCA, 3 A2, 4 A3, 5 A4, 6 A5, 7 A6, 8 A7, 9 A8, 10 OE, 11 GND, 12 B8, 13 B7, 14 B6, 15 B5, 16 B4, 17 B3, 18 B2, 19 VCCB, 20 B1

## USB3320C-EZK
designator U??
IC TXRX USB 2.0 FLEXPWR 32QFN; Manufacturer: Microchip Technology; ComponentLink1Description: Datasheet; ComponentLink1URL: C:\Users\Public\Documents\Altium\AD16\Library\PDF\00001792E.pdf; Supplier 1: Digi-Key; Supplier Part Number 1: USB3320C-EZK-ND; Operating Temperature: -40°C ~ 85°C; Manufacturer Part Number: USB3320C-EZK
footprint QFN50P500X500X100_HS-33N (QFN, 32-Leads, Body 5.00x5.00mm, Pitch 0.50mm, Thermal Pad 3.30x3.30mm, IPC Medium Density)
pins: 1 CLKOUT (out), 2 NXT (out), 3 D0 (io), 4 D1 (io), 5 D2 (io), 6 D3 (io), 7 D4 (io), 8 REFSEL0 (in), 9 D5 (io), 10 D6 (io), 11 REFSEL1 (in), 12 NC, 13 D7 (io), 14 REFSEL2 (in), 15 SPK_L (io), 16 SPK_R (io), 17 CPEN (out), 18 DP (io), 19 DM (io), 20 VDD33, 21 VBAT, 22 VBUS (io), 23 ID (in), 24 RBIAS, 25 XO (out), 26 REFCLK (in), 27 RESETB (in), 28 VDD18, 29 STP (in), 30 VDD18, 31 DIR (out), 32 VDDIO, 33 PAD

## USB_MICROB_WURTH_629105136821
designator J??
CONN RCPT USB MICRO B R/A SMT; Manufacturer: Wurth Electronics Inc; Number of Contacts: 5; Opearating Temperature: -40°C ~ 105°C; ComponentLink1Description: Datasheet; ComponentLink1URL: C:\Users\Public\Documents\Altium\AD16\Library\PDF\629105136821.pdf; Supplier 1: Digi-Key; Supplier Part Number 1: 732-3155-1-ND; Manufacturer Part Number: 629105136821
footprint USB_MICROB_WURTH_629105136821 (5 pins)
pins: 1 VCC, 2 D-, 3 D+, 4 ID, 5 GND, Z1 Shield, Z2 Shield, Z3 Shield, Z4 Shield

## Wire-Wrap Contact x2
designator J??, comment Test Point  (value not drawn)
2 Mini Wire-Wrap Contact Strip Header; Part Number: COMATEL_385.0358.1.02.400; Part Description: 2 Contacts Straight Strip Header Pitch 2.54mm L=6.3mm ''Mini-Wire-Wrap''; Manufacturer: KONTEK COMATEL; Manufacturer Part Number: 385.0358.1.02.400; Table: COMATEL; Component Kind: Standard; Component Type: Standard; Footprint: COMATEL_385.0358.1.02.400; Pin Count: 2; Family: Test Point; Mounted: Yes; Socket: No; SMD: No; Status: Not recommended; ComponentHeight: 8mm; HelpURL: \\cern.ch\dfs\Applications\Altium\Datasheets\COMATEL_385.0358.1.02.400.pdf; Author: CERN DEM JLC; CreateDate: 30.06.2010; LatestRevisionDate: 10.10.2012
footprint COMATEL_385.0358.1.02.400
part A pins: 1 (io)
part B pins: 2 (io)

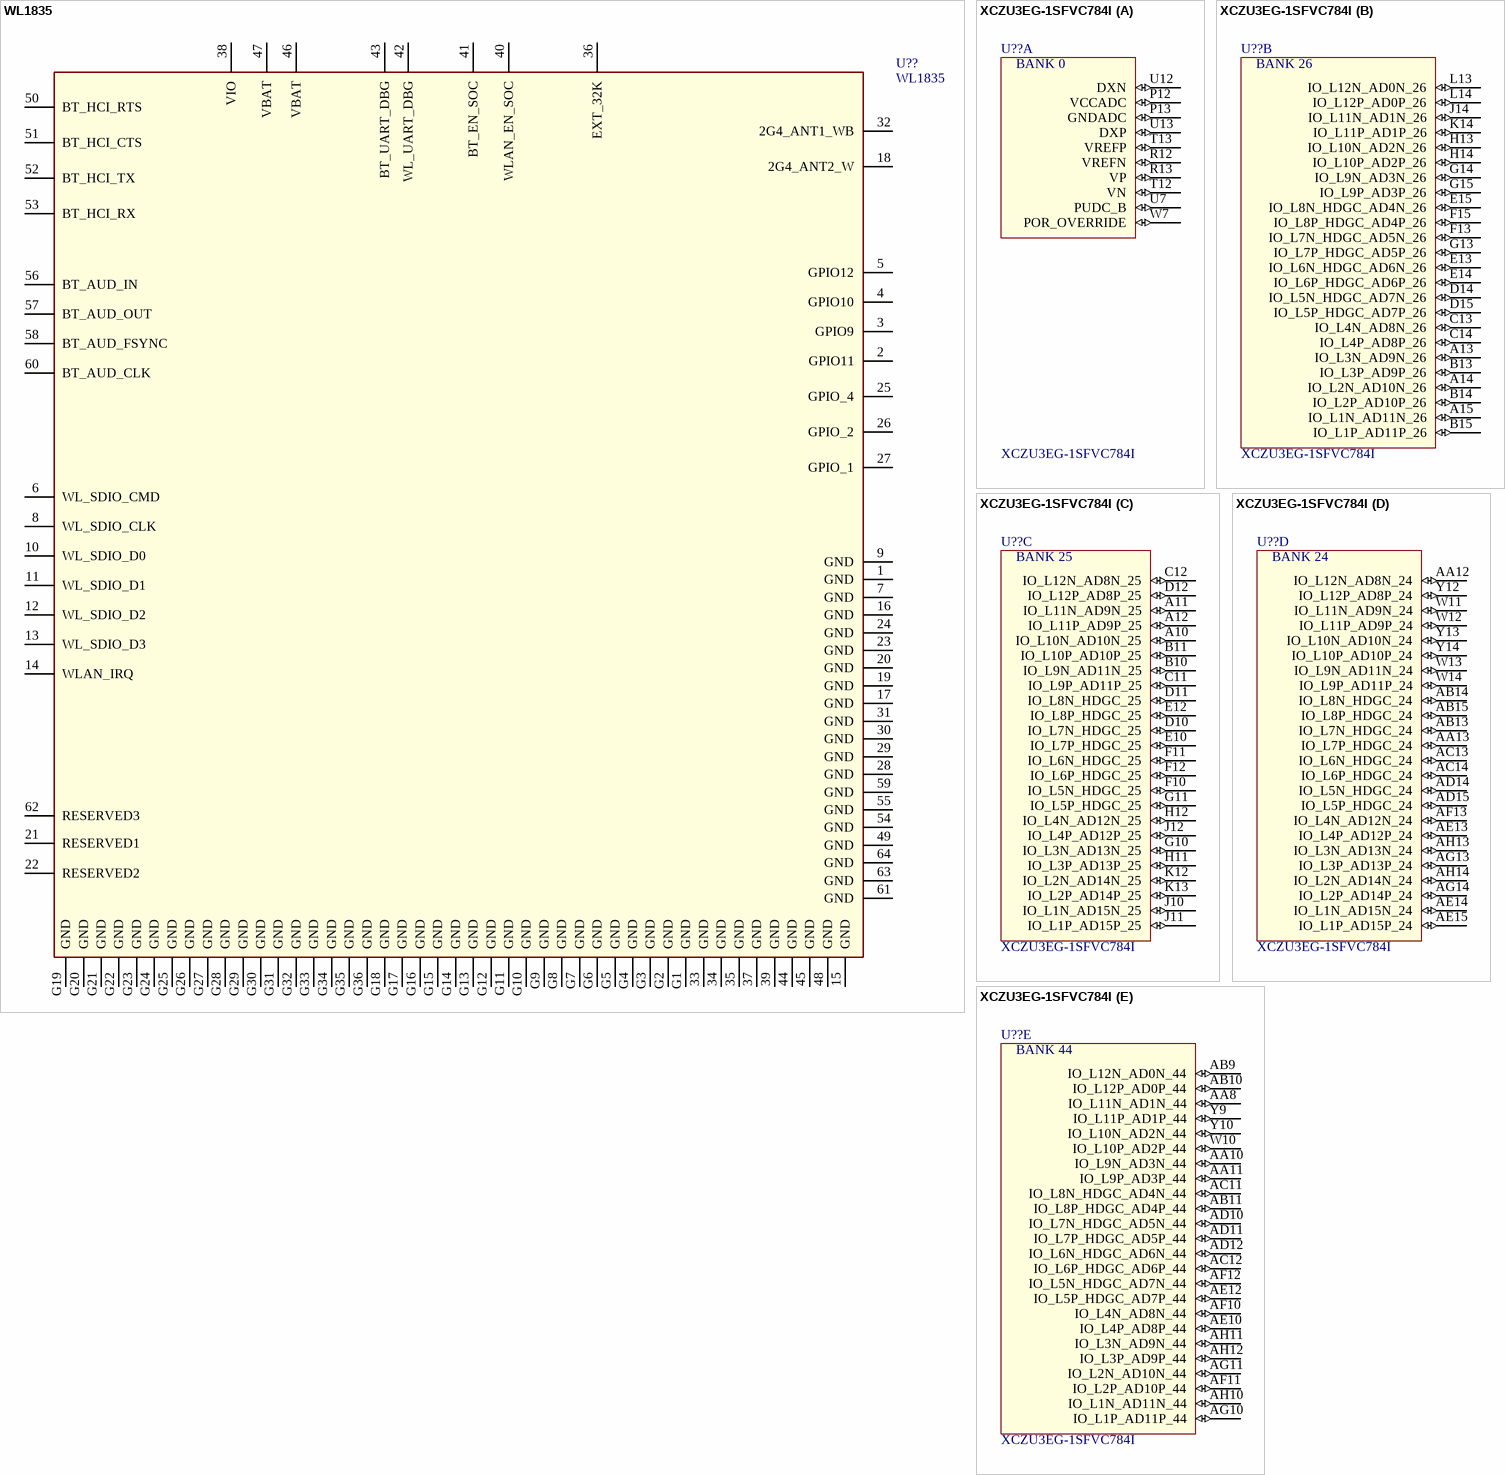
[diagram p4: symbols WL1835 to XCZU3EG-1SFVC784I]

## WL1835
designator U??
MODULE WIFI WILINK; Manufacturer Part Number: WL1835MODGBMOCR; Manufacturer: Texas Instruments; Voltage - Supply: 2.9 V ~ 4.8 V; Power - Output: 17.3dBm; Sensitivity: -96.3dBm; Protocol: 802.11a/b/g/n, Bluetooth v4.1 Low Energy (BLE); Frequency: 2.4GHz ~ 2.48GHz; Current - Receiving: 85mA; Data Rate: 100Mbps; RF Family/Standard: Bluetooth, WiFi; Current - Transmitting: 420mA; Antenna Type: Integrated, Chip; Serial Interfaces: UART; Category: RF/IF and RFID; Modulation: -; Memory Size: -; Supplier: Digi-Key; RoHS: RoHS Compliant By Exemption; Packaging: Tape & Reel (TR); Package / Case: Module; Operating Temperature: -40°C ~ 85°C; Mounting Type: Surface Mount; Supplier Part Number: 296-38032-2-ND
footprint E-13.4X13.3-N100_0.75-TOP
pins: 1 GND (power), 2 GPIO11, 3 GPIO9, 4 GPIO10, 5 GPIO12, 6 WL_SDIO_CMD, 7 GND (power), 8 WL_SDIO_CLK, 9 GND (power), 10 WL_SDIO_D0, 11 WL_SDIO_D1, 12 WL_SDIO_D2, 13 WL_SDIO_D3, 14 WLAN_IRQ, 15 GND (power), 16 GND (power), 17 GND (power), 18 2G4_ANT2_W, 19 GND (power), 20 GND (power), 21 RESERVED1, 22 RESERVED2, 23 GND (power), 24 GND (power), 25 GPIO_4, 26 GPIO_2, 27 GPIO_1, 28 GND (power), 29 GND (power), 30 GND (power), 31 GND (power), 32 2G4_ANT1_WB, 33 GND (power), 34 GND (power), 35 GND (power), 36 EXT_32K, 37 GND (power), 38 VIO (power), 39 GND (power), 40 WLAN_EN_SOC, 41 BT_EN_SOC, 42 WL_UART_DBG, 43 BT_UART_DBG, 44 GND (power), 45 GND (power), 46 VBAT (power), 47 VBAT (power), 48 GND (power), 49 GND (power), 50 BT_HCI_RTS, 51 BT_HCI_CTS, 52 BT_HCI_TX, 53 BT_HCI_RX, 54 GND (power), 55 GND (power), 56 BT_AUD_IN, 57 BT_AUD_OUT, 58 BT_AUD_FSYNC, 59 GND (power), 60 BT_AUD_CLK, 61 GND (power), 62 RESERVED3, 63 GND (power), 64 GND (power), G1 GND (power), G2 GND (power), G3 GND (power), G4 GND (power), G5 GND (power), G6 GND (power), G7 GND (power), G8 GND (power), G9 GND (power), G10 GND (power), G11 GND (power), G12 GND (power), G13 GND (power), G14 GND (power), G15 GND (power), G16 GND (power), G17 GND (power), G18 GND (power), G19 GND (power), G20 GND (power), G21 GND (power), G22 GND (power), G23 GND (power), G24 GND (power), G25 GND (power), G26 GND (power), G27 GND (power), G28 GND (power), G29 GND (power), G30 GND (power), G31 GND (power), G32 GND (power), G33 GND (power), G34 GND (power), G35 GND (power), G36 GND (power)

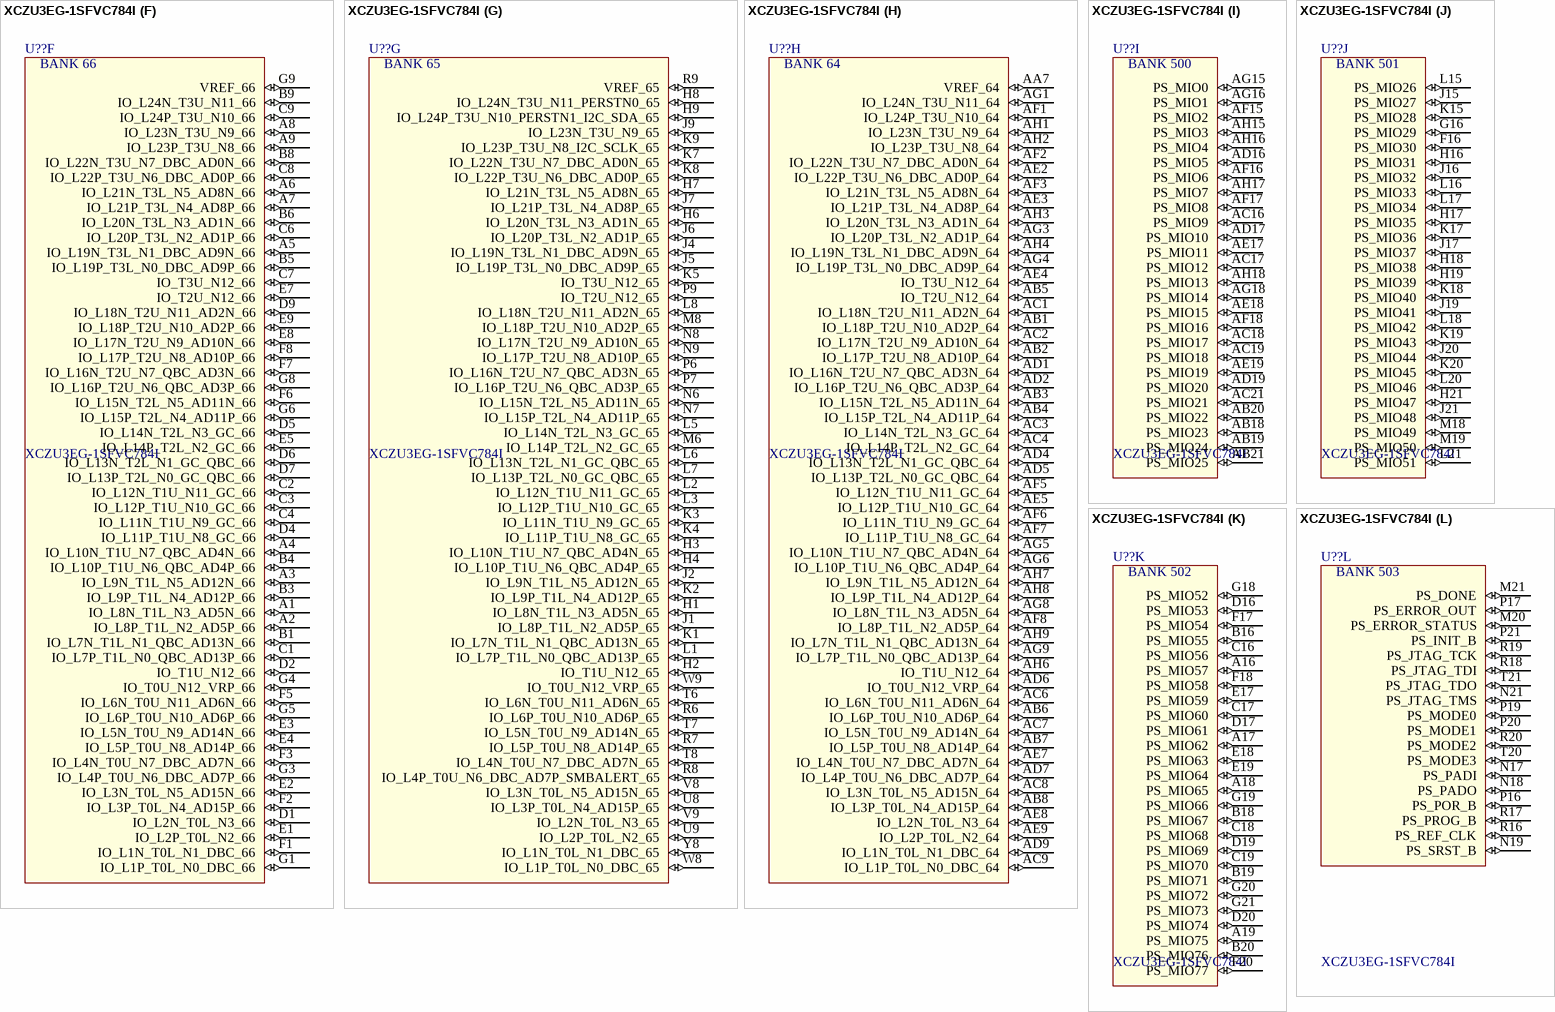
[diagram p5: symbol XCZU3EG-1SFVC784I]

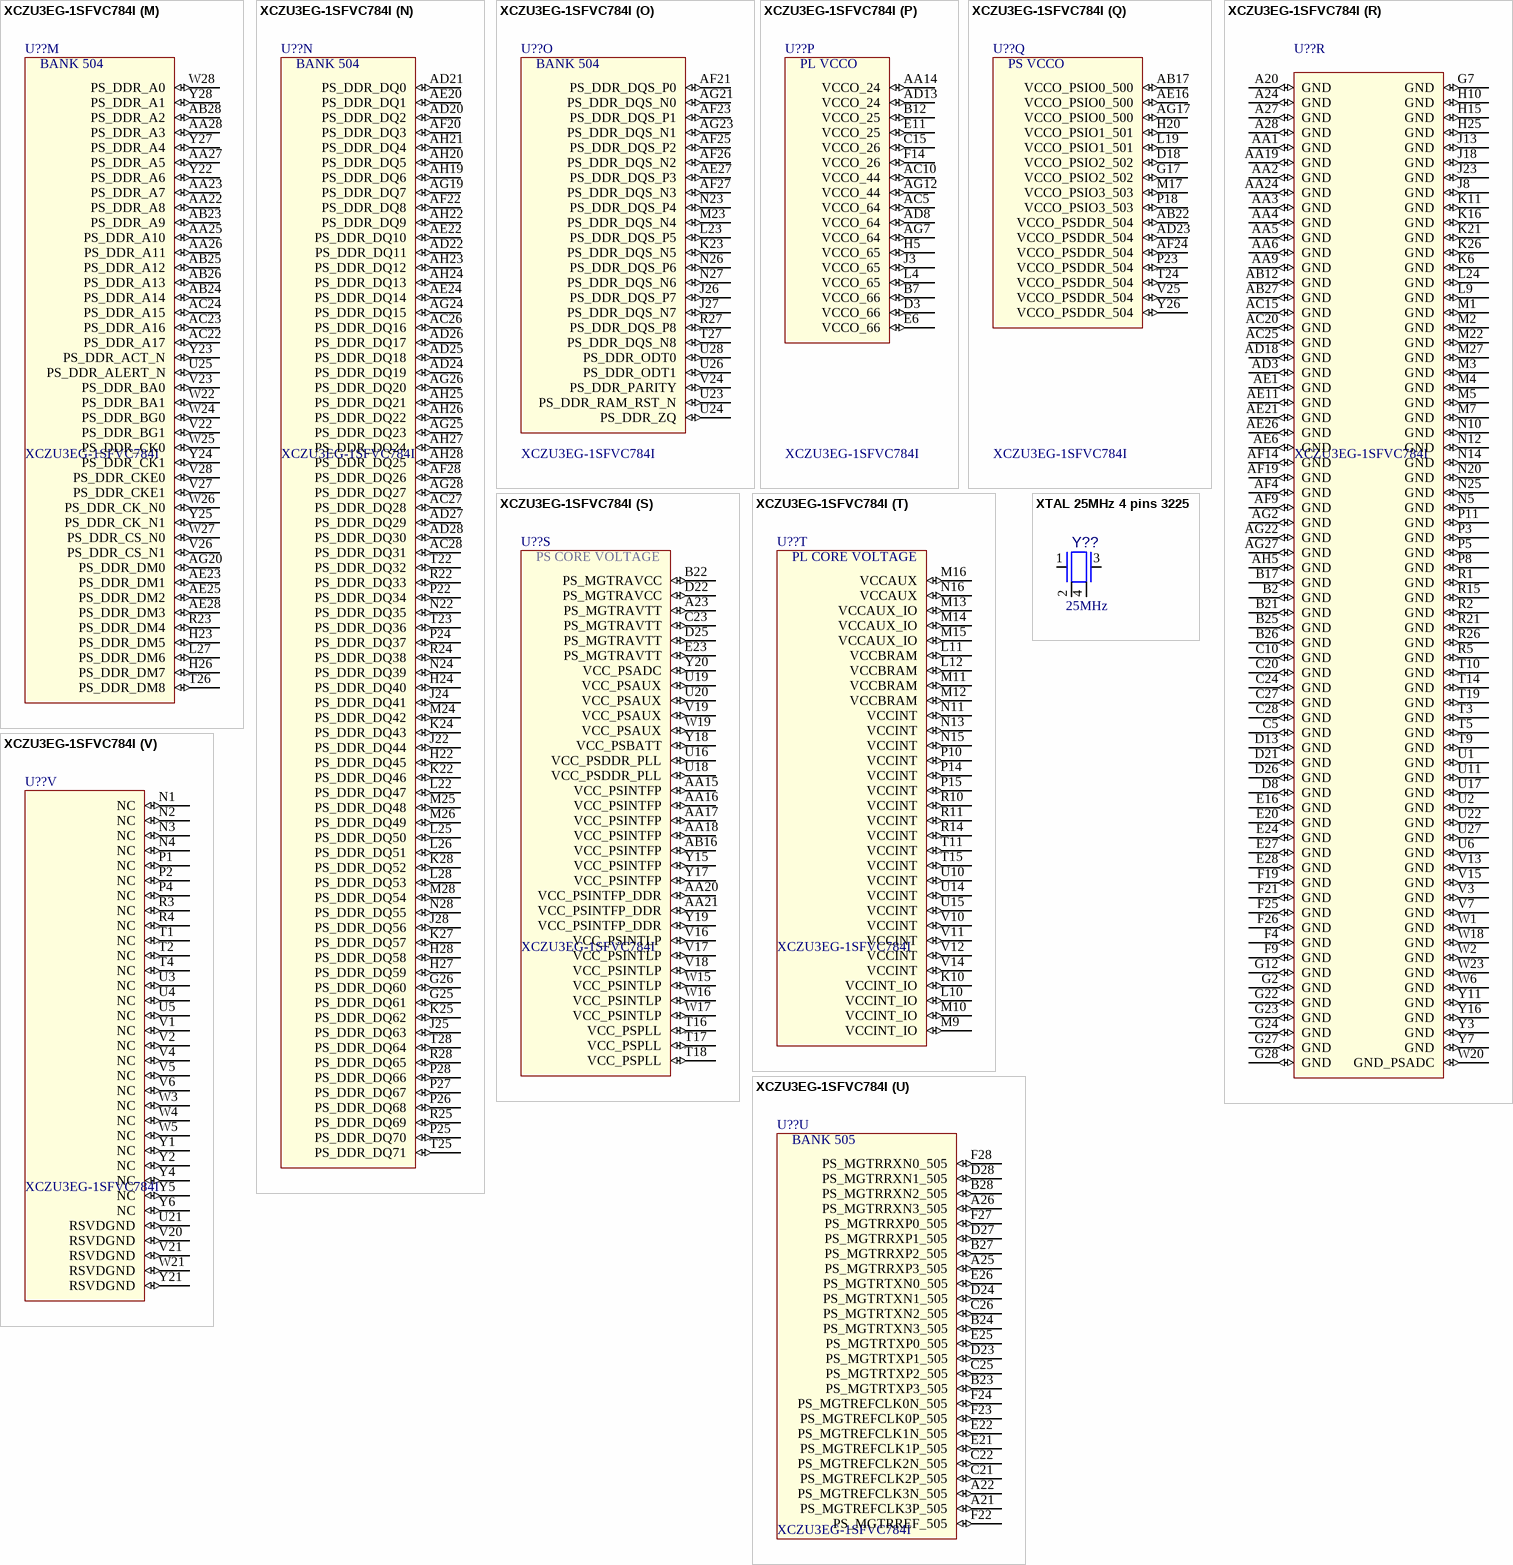
[diagram p6: symbols XCZU3EG-1SFVC784I to XTAL 25MHz 4 pins 3225]